# EAGLE library part 5555140-6 (library 5555140-6 RJ11)
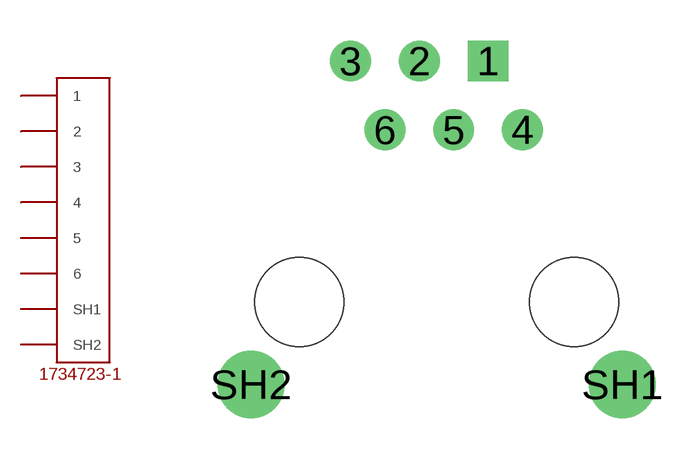
[diagram p0: symbol with the pads of 1734723-1_RJ11; footprint 1734723-1_RJ11]

Designator prefix -

## 5555140-6  [1734723-1_RJ11]
1  1
2  2
3  3
4  4
5  5
6  6
SH1  SH1
SH2  SH2

## Footprint 1734723-1_RJ11 (pad centres in mm)
drill 1 square: 1 1.27,5.08
drill 1: 2 -1.27,5.08; 3 -3.81,5.08; 4 2.54,2.54; 5 0,2.54; 6 -2.54,2.54
drill 1.65: SH1 6.23,-6.86; SH2 -7.49,-6.86
hole 3.3 at 4.45,-3.81
hole 3.3 at -5.71,-3.81